# Altium schematic symbol library CGA2B3X7R1H333K050BB.SchLib: 1 symbol
Pins are listed as number, name and electrical type; pins without a type are passive.

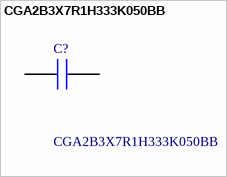
[diagram p0: symbol CGA2B3X7R1H333K050BB]

## CGA2B3X7R1H333K050BB
designator C?
Multilayer Ceramic Chip Capacitors, Capacitance=33nF, LxWxT:1x0.5x0.5mm; Manufacturer_Name: TDK; Geometry.Height: 0.55mm; Mouser Part Number: 810-CGA2B3X7R1H333K; Mouser Price/Stock: https://www.mouser.com/Search/Refine.aspx?Keyword=810-CGA2B3X7R1H333K; Manufacturer_Part_Number: CGA2B3X7R1H333K050BB; Datasheet Link: https://componentsearchengine.com/Datasheets/1/CGA2B3X7R1H333K050BB.pdf
footprint CAPC1005X55N
pins: 1, 2